# Altium schematic symbol library MODCMP-P072-M14X10_New.SchLib: 1 symbol
Pins are listed as number, name and electrical type; pins without a type are passive.

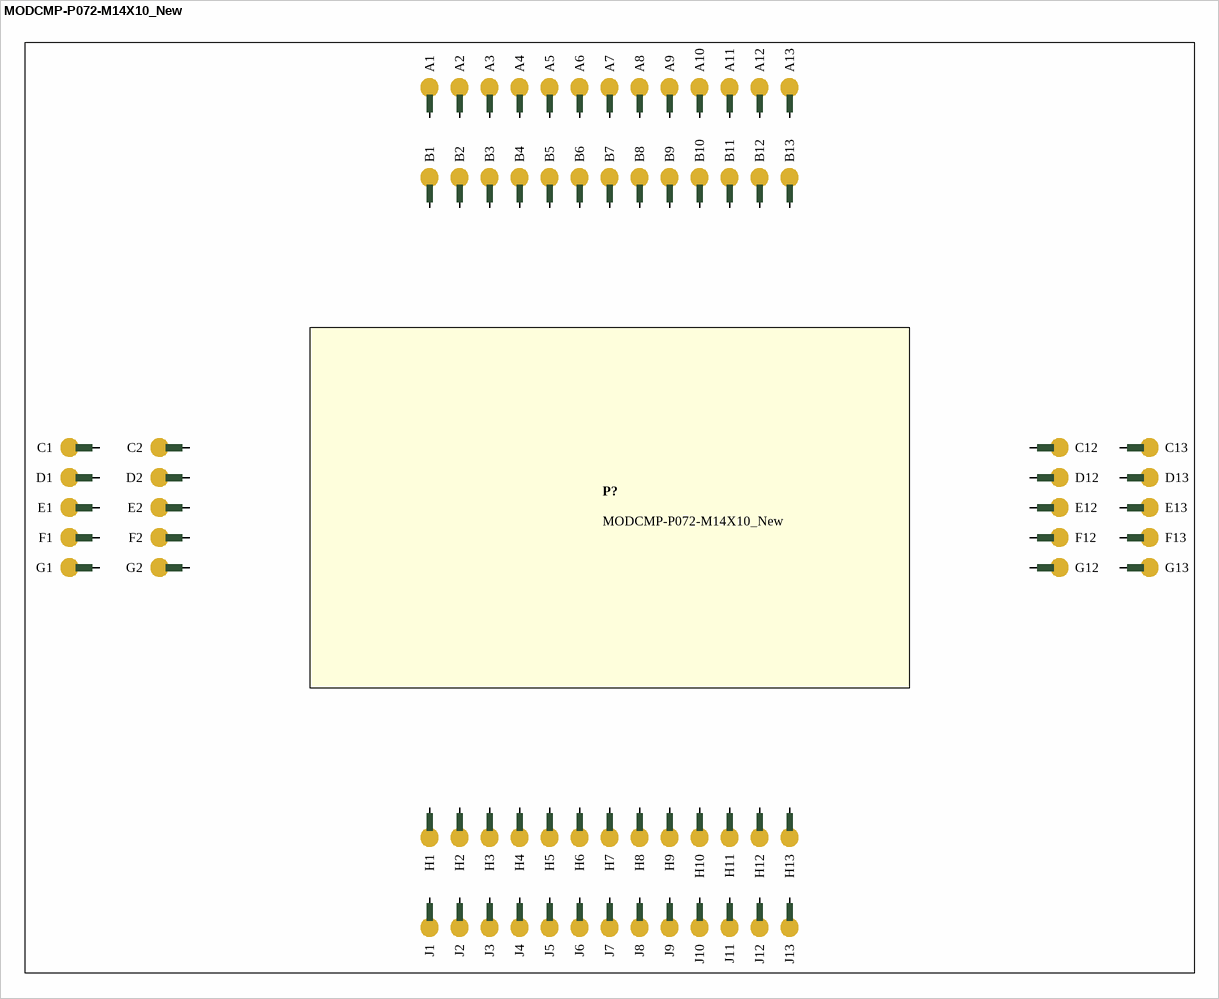
[diagram p0: symbol MODCMP-P072-M14X10_New]

## MODCMP-P072-M14X10_New
designator P?  (no BOM)
Module Component - 1mm Pitch, 72-Pin, 14mmX10mm
pins: A1, A2, A3, A4, A5, A6, A7, A8, A9, A10, A11, A12, A13, B1, B2, B3, B4, B5, B6, B7, B8, B9, B10, B11, B12, B13, C1, C2, C12, C13, D1, D2, D12, D13, E1, E2, E12, E13, F1, F2, F12, F13, G1, G2, G12, G13, H1, H2, H3, H4, H5, H6, H7, H8, H9, H10, H11, H12, H13, J1, J2, J3, J4, J5, J6, J7, J8, J9, J10, J11, J12, J13